# Altium footprint library WE-HCI.PcbLib: 12 footprints
Each footprint in its own frame and in the unit in brackets; x right, y up, seen from the top. Pads: shape width x height; smd on the part's side, far side on the other; paste and mask are expansions set on the pad; w line width, h text height; cw(c..) or ccw(c..) is an arc to the next point about the centre after c.
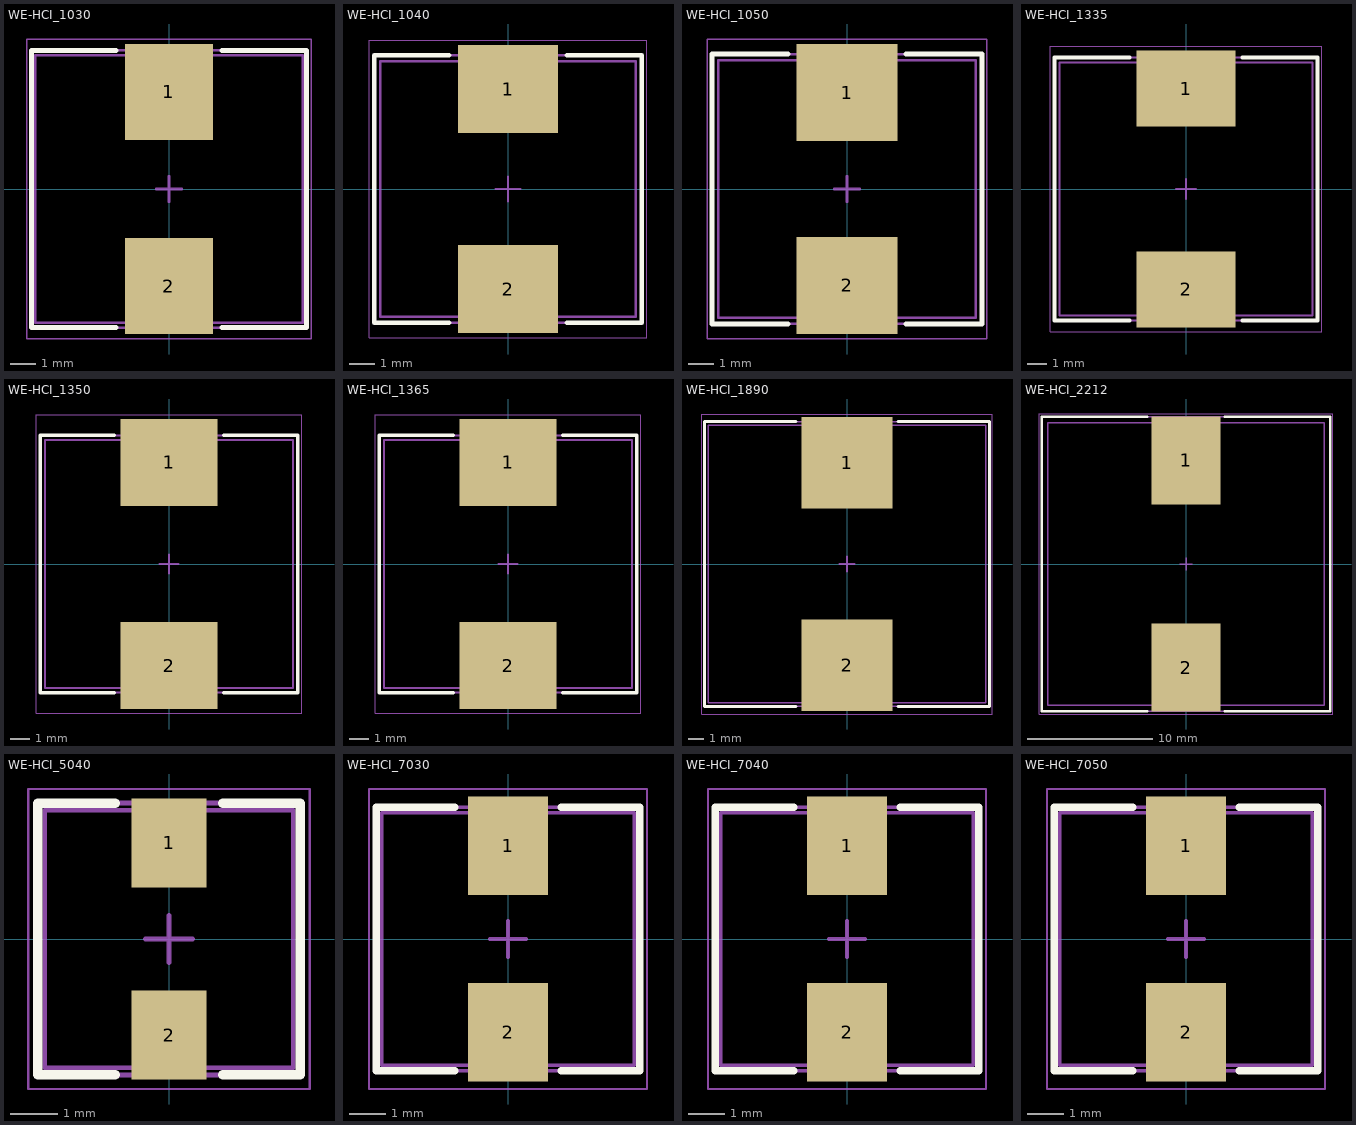
[diagram p0: the footprints below, top view; thin cyan lines are the x and y axes]

## WE-HCI_1030 [mm] "SMT Flat Wire High Current Inductor, body 10.6x10.6mm"
height 2.8
pads (2):
  rect 3.5x3.8 smd: 1(0,3.85) 2(0,-3.85)
Top Overlay:
  lines w0.2: -2.1,-5.5 -5.45,-5.5 -5.45,5.5 -2.1,5.5 ; 2.1,-5.5 5.45,-5.5 5.45,5.5 2.1,5.5
Top Assembly:
  lines w0.1: -5.45,-5.5 -5.45,5.5 5.45,5.5 5.45,-5.5 -5.45,-5.5
Top Designator:
  text ".Designator" at -3.647,-0.357 h1
Top 3D Body:
  lines w0.1: -5.3,-5.3 -5.3,5.3 5.3,5.3 5.3,-5.3 -5.3,-5.3
Top Courtyard:
  lines w0.05: -5.65,-5.95 5.65,-5.95 5.65,5.95 -5.65,5.95 -5.65,-5.95
Top Component Center:
  lines w0.1: -0.5,0 0.5,0 ; 0,-0.5 0,0.5
3D body "744323xxx.stp": height 2.81, standoff 0.01, extent -5.3,-5.3 5.3,5.3

## WE-HCI_1040 [mm] "SMT Flat Wire High Current Inductor, body 10.2x10.2mm"
height 4
pads (2):
  rect 4x3.5 smd: 1(0,4) 2(0,-4)
Top Overlay:
  lines w0.2: -2.35,-5.35 -5.35,-5.35 -5.35,5.35 -2.35,5.35 ; 2.35,-5.35 5.35,-5.35 5.35,5.35 2.35,5.35
Top Assembly:
  lines w0.1: -5.35,-5.35 -5.35,5.35 5.35,5.35 5.35,-5.35 -5.35,-5.35
Top Designator:
  text ".Designator" at -3.647,-0.357 h1
Top 3D Body:
  lines w0.1: -5.1,-5.1 -5.1,5.1 5.1,5.1 5.1,-5.1 -5.1,-5.1
Top Courtyard:
  lines w0.05: -5.55,-5.95 5.55,-5.95 5.55,5.95 -5.55,5.95 -5.55,-5.95
Top Component Center:
  lines w0.1: -0.5,0 0.5,0 ; 0,-0.5 0,0.5
3D body "7443552xxx.stp": height 4.01, standoff 0, extent -5.1,-5.25 5.1,5.249

## WE-HCI_1050 [mm] "SMT Flat Wire High Current Inductor, body 10.2x10.2mm"
height 4.7
pads (2):
  rect 4x3.85 smd: 1(0,3.825) 2(0,-3.825)
Top Overlay:
  lines w0.2: -2.35,-5.35 -5.35,-5.35 -5.35,5.35 -2.35,5.35 ; 2.35,-5.35 5.35,-5.35 5.35,5.35 2.35,5.35
Top Assembly:
  lines w0.1: -5.35,-5.35 5.35,-5.35 5.35,5.35 -5.35,5.35 -5.35,-5.35
Top Designator:
  text ".Designator" at -3.647,-0.357 h1
Top 3D Body:
  lines w0.1: -5.1,-5.1 -5.1,5.1 5.1,5.1 5.1,-5.1 -5.1,-5.1
Top Courtyard:
  lines w0.05: -5.55,-5.95 5.55,-5.95 5.55,5.95 -5.55,5.95 -5.55,-5.95
Top Component Center:
  lines w0.1: -0.5,0 0.5,0 ; 0,-0.5 0,0.5
3D body "744325xxx_1050.stp": height 5.02, standoff 0.06, extent -5.035,-5.25 5.035,5.25

## WE-HCI_1335 [mm] "SMT Flat Wire High Current Inductor, body 12.8x12.8mm"
height 3.3
pads (2):
  rect 5x3.85 smd: 1(0,5.075) 2(0,-5.075)
Top Overlay:
  lines w0.2: -2.85,-6.65 -6.65,-6.65 -6.65,6.65 -2.85,6.65 ; 2.85,-6.65 6.65,-6.65 6.65,6.65 2.85,6.65
Top Assembly:
  lines w0.1: -6.65,-6.65 -6.65,6.65 6.65,6.65 6.65,-6.65 -6.65,-6.65
Top Designator:
  text ".Designator" at -3.647,-0.357 h1
Top 3D Body:
  lines w0.1: -6.4,-6.4 -6.4,6.4 6.4,6.4 6.4,-6.4 -6.4,-6.4
Top Courtyard:
  lines w0.05: -6.85,-7.2 -6.85,7.2 6.85,7.2 6.85,-7.2 -6.85,-7.2
Top Component Center:
  lines w0.1: -0.5,0 0.5,0 ; 0,-0.5 0,0.5
3D body "744313xxx.stp": height 3.5, standoff 0, extent -6.4,-6.45 6.4,6.45

## WE-HCI_1350 [mm] "SMT Flat Wire High Current Inductor, body 12.8x12.8mm"
height 4.7
pads (2):
  rect 5x4.5 smd: 1(0,5.25) 2(0,-5.25)
Top Overlay:
  lines w0.2: -2.85,-6.65 -6.65,-6.65 -6.65,6.65 -2.85,6.65 ; 2.85,-6.65 6.65,-6.65 6.65,6.65 2.85,6.65
Top Assembly:
  lines w0.1: -6.65,-6.65 -6.65,6.65 6.65,6.65 6.65,-6.65 -6.65,-6.65
Top Designator:
  text ".Designator" at -3.647,-0.357 h1
Top 3D Body:
  lines w0.1: -6.4,-6.4 6.4,-6.4 6.4,6.4 -6.4,6.4 -6.4,-6.4
Top Courtyard:
  lines w0.05: -6.85,-7.7 -6.85,7.7 6.85,7.7 6.85,-7.7 -6.85,-7.7
Top Component Center:
  lines w0.1: -0.5,0 0.5,0 ; 0,-0.5 0,0.5
3D body "7443550xxx.stp": height 5, standoff 0, extent -6.4,-6.505 6.4,6.504

## WE-HCI_1365 [mm] "SMT Flat Wire High Current Inductor, body 12.8x12.8mm"
height 6.2
pads (2):
  rect 5x4.5 smd: 1(0,5.25) 2(0,-5.25)
Top Overlay:
  lines w0.2: -2.85,-6.65 -6.65,-6.65 -6.65,6.65 -2.85,6.65 ; 2.85,-6.65 6.65,-6.65 6.65,6.65 2.85,6.65
Top Assembly:
  lines w0.1: -6.65,-6.65 6.65,-6.65 6.65,6.65 -6.65,6.65 -6.65,-6.65
Top Designator:
  text ".Designator" at -3.647,-0.357 h1
Top 3D Body:
  lines w0.1: -6.4,-6.4 6.4,-6.4 6.4,6.4 -6.4,6.4 -6.4,-6.4
Top Courtyard:
  lines w0.05: -6.85,-7.7 -6.85,7.7 6.85,7.7 6.85,-7.7 -6.85,-7.7
Top Component Center:
  lines w0.1: -0.5,0 0.5,0 ; 0,-0.5 0,0.5
3D body "7443551xxx.stp": height 6.2, standoff 0, extent -6.4,-6.5 6.4,6.5

## WE-HCI_1890 [mm] "SMT Flat Wire High Current Inductor, body 18.2x18.2mm"
height 8.9
pads (2):
  rect 6x6 smd: 1(0,6.65) 2(0,-6.65)
Top Overlay:
  lines w0.2: -3.35,-9.35 -9.35,-9.35 -9.35,9.35 -3.35,9.35 ; 3.35,-9.35 9.35,-9.35 9.35,9.35 3.35,9.35
Top Assembly:
  lines w0.1: -9.35,-9.35 9.35,-9.35 9.35,9.35 -9.35,9.35 -9.35,-9.35
Top Designator:
  text ".Designator" at -3.647,-0.357 h1
Top 3D Body:
  lines w0.1: -9.1,-9.1 9.1,-9.1 9.1,9.1 -9.1,9.1 -9.1,-9.1
Top Courtyard:
  lines w0.05: -9.55,-9.85 9.55,-9.85 9.55,9.85 -9.55,9.85 -9.55,-9.85
Top Component Center:
  lines w0.1: -0.5,0 0.5,0 ; 0,-0.5 0,0.5
3D body "7443556xxx.stp": height 8.9, standoff 0, extent -9.1,-9.15 9.1,9.15

## WE-HCI_2212 [mm] "SMT Flat Wire High Current Inductor, body 22x22.5mm"
height 12
pads (2):
  rect 5.5x7 smd: 1(0,8.25) 2(0,-8.25)
Top Overlay:
  lines w0.2: -3.1,-11.75 -11.5,-11.75 -11.5,11.75 -3.1,11.75 ; 3.1,-11.75 11.5,-11.75 11.5,11.75 3.1,11.75
Top Assembly:
  lines w0.1: -11.5,-11.75 11.5,-11.75 11.5,11.75 -11.5,11.75 -11.5,-11.75
Top Designator:
  text ".Designator" at -3.647,-0.357 h1
Top 3D Body:
  lines w0.1: -11,-11.25 -11,11.25 11,11.25 11,-11.25 -11,-11.25
Top Courtyard:
  lines w0.05: -11.7,-11.95 11.7,-11.95 11.7,11.95 -11.7,11.95 -11.7,-11.95
Top Component Center:
  lines w0.1: -0.5,0 0.5,0 ; 0,-0.5 0,0.5
3D body "7443558xxxx.stp": height 12, standoff 0, extent -11,-11.25 11,11.25

## WE-HCI_5040 [mm] "SMT Flat Wire High Current Inductor, body 5.3x5.5mm"
height 4
pads (2):
  rect 1.6x1.9 smd: 1(0,2.05) 2(0,-2.05)
Top Overlay:
  lines w0.2: -1.15,-2.9 -2.8,-2.9 -2.8,2.9 -1.15,2.9 ; 1.15,-2.9 2.8,-2.9 2.8,2.9 1.15,2.9
Top Assembly:
  lines w0.1: -2.8,-2.9 2.8,-2.9 2.8,2.9 -2.8,2.9 -2.8,-2.9
Top Designator:
  text ".Designator" at -3.647,-0.357 h1
Top 3D Body:
  lines w0.1: -2.65,-2.75 2.65,-2.75 2.65,2.75 -2.65,2.75 -2.65,-2.75
Top Courtyard:
  lines w0.05: -3,-3.2 -3,3.2 3,3.2 3,-3.2 -3,-3.2
Top Component Center:
  lines w0.1: -0.5,0 0.5,0 ; 0,-0.5 0,0.5
3D body "744316xxx.stp": height 3.95, standoff 0, extent -2.65,-2.8 2.65,2.8

## WE-HCI_7030 [mm] "SMT Flat Wire High Current Inductor, body 6.9x6.9mm"
height 3
pads (2):
  rect 2.2x2.7 smd: 1(0,2.55) 2(0,-2.55)
Top Overlay:
  lines w0.2: -1.45,-3.6 -3.6,-3.6 -3.6,3.6 -1.45,3.6 ; 1.45,-3.6 3.6,-3.6 3.6,3.6 1.45,3.6
Top Assembly:
  lines w0.1: -3.6,-3.6 3.6,-3.6 3.6,3.6 -3.6,3.6 -3.6,-3.6
Top Designator:
  text ".Designator" at -3.647,-0.357 h1
Top 3D Body:
  lines w0.1: -3.45,-3.45 3.45,-3.45 3.45,3.45 -3.45,3.45 -3.45,-3.45
Top Courtyard:
  lines w0.05: -3.8,-4.1 3.8,-4.1 3.8,4.1 -3.8,4.1 -3.8,-4.1
Top Component Center:
  lines w0.1: -0.5,0 0.5,0 ; 0,-0.5 0,0.5
3D body "744310xxx.stp": height 3, standoff 0, extent -3.45,-3.5 3.45,3.5

## WE-HCI_7040 [mm] "SMT Flat Wire High Current Inductor, body 6.9x6.9mm"
height 3.8
pads (2):
  rect 2.2x2.7 smd: 1(0,2.55) 2(0,-2.55)
Top Overlay:
  lines w0.2: -1.45,-3.6 -3.6,-3.6 -3.6,3.6 -1.45,3.6 ; 1.45,-3.6 3.6,-3.6 3.6,3.6 1.45,3.6
Top Assembly:
  lines w0.1: -3.6,-3.6 -3.6,3.6 3.6,3.6 3.6,-3.6 -3.6,-3.6
Top Designator:
  text ".Designator" at -3.647,-0.357 h1
Top 3D Body:
  lines w0.1: -3.45,-3.45 -3.45,3.45 3.45,3.45 3.45,-3.45 -3.45,-3.45
Top Courtyard:
  lines w0.05: -3.8,-4.1 -3.8,4.1 3.8,4.1 3.8,-4.1 -3.8,-4.1
Top Component Center:
  lines w0.1: -0.5,0 0.5,0 ; 0,-0.5 0,0.5
3D body "744311xxx.stp": height 4.05, standoff 0.05, extent -3.45,-3.5 3.45,3.5

## WE-HCI_7050 [mm] "SMT Flat Wire High Current Inductor, body 6.9x6.9mm"
height 4.8
pads (2):
  rect 2.2x2.7 smd: 1(0,2.55) 2(0,-2.55)
Top Overlay:
  lines w0.2: -1.45,-3.6 -3.6,-3.6 -3.6,3.6 -1.45,3.6 ; 1.45,-3.6 3.6,-3.6 3.6,3.6 1.45,3.6
Top Assembly:
  lines w0.1: -3.6,-3.6 -3.6,3.6 3.6,3.6 3.6,-3.6 -3.6,-3.6
Top Designator:
  text ".Designator" at -3.647,-0.357 h1
Top 3D Body:
  lines w0.1: -3.45,-3.45 -3.45,3.45 3.45,3.45 3.45,-3.45 -3.45,-3.45
Top Courtyard:
  lines w0.05: -3.8,-4.1 -3.8,4.1 3.8,4.1 3.8,-4.1 -3.8,-4.1
Top Component Center:
  lines w0.1: -0.5,0 0.5,0 ; 0,-0.5 0,0.5
3D body "744314xxx.stp": height 6, standoff 0.04, extent -3.45,-3.5 3.45,3.5